# Altium footprint library ESDCAN05-2BWY.PcbLib: 1 footprints
Each footprint in its own frame and in the unit in brackets; x right, y up, seen from the top. Pads: shape width x height; smd on the part's side, far side on the other; paste and mask are expansions set on the pad; w line width, h text height; cw(c..) or ccw(c..) is an arc to the next point about the centre after c.
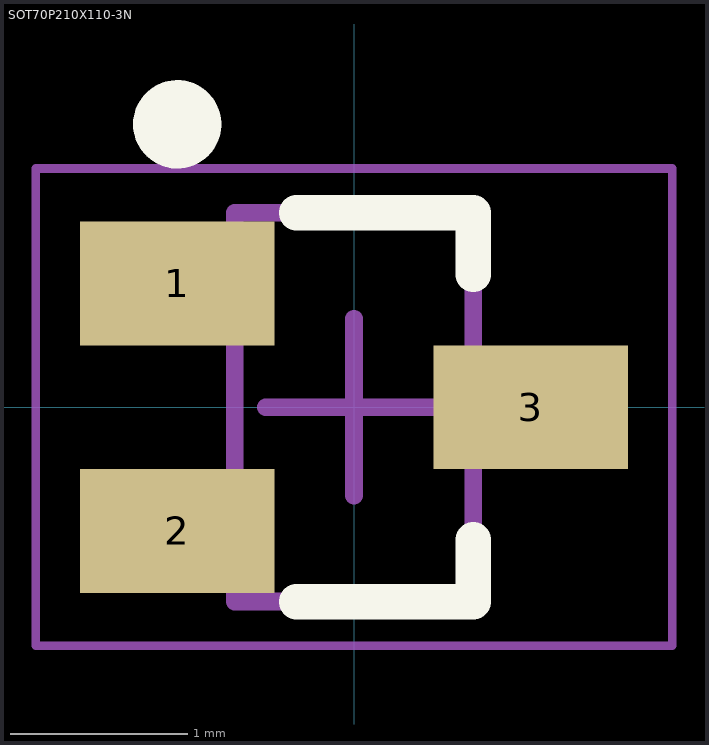
[diagram p0: the footprint, top view; thin cyan lines are the x and y axes]

## SOT70P210X110-3N [mm] "SOT23, 3-Leads, Body 2.00x2.10mm, Pitch 0.70mm, IPC Medium Density"
height 1.1
pads (3):
  rect 1.1x0.7 smd: 1(-1,0.7) 2(-1,-0.7) 3(1,0)
Top Overlay:
  circle w0.25: c-1,1.6 r0.125
  lines w0.2: -0.325,-1.1 0.675,-1.1 0.675,-0.75 ; -0.325,1.1 0.675,1.1 0.675,0.75
Mechanical 13:
  lines w0.1: -0.675,-1.1 0.675,-1.1 0.675,1.1 -0.675,1.1 -0.675,-1.1
Mechanical 15:
  lines w0.05: -1.8,-1.35 1.8,-1.35 1.8,1.35 -1.8,1.35 -1.8,-1.35
  lines w0.1: -0.5,0 0.5,0 ; 0,-0.5 0,0.5
3D body "SOT70P210X110-3N.step": height 1.1, standoff 0, extent -1.3,-1.1 1.3,1.1